# Altium footprint library basic_pcb.PcbLib: 133 footprints (part 7 of 9)
Each footprint in its own frame and in the unit in brackets; x right, y up, seen from the top. Pads: shape width x height; smd on the part's side, far side on the other; paste and mask are expansions set on the pad; w line width, h text height; cw(c..) or ccw(c..) is an arc to the next point about the centre after c.
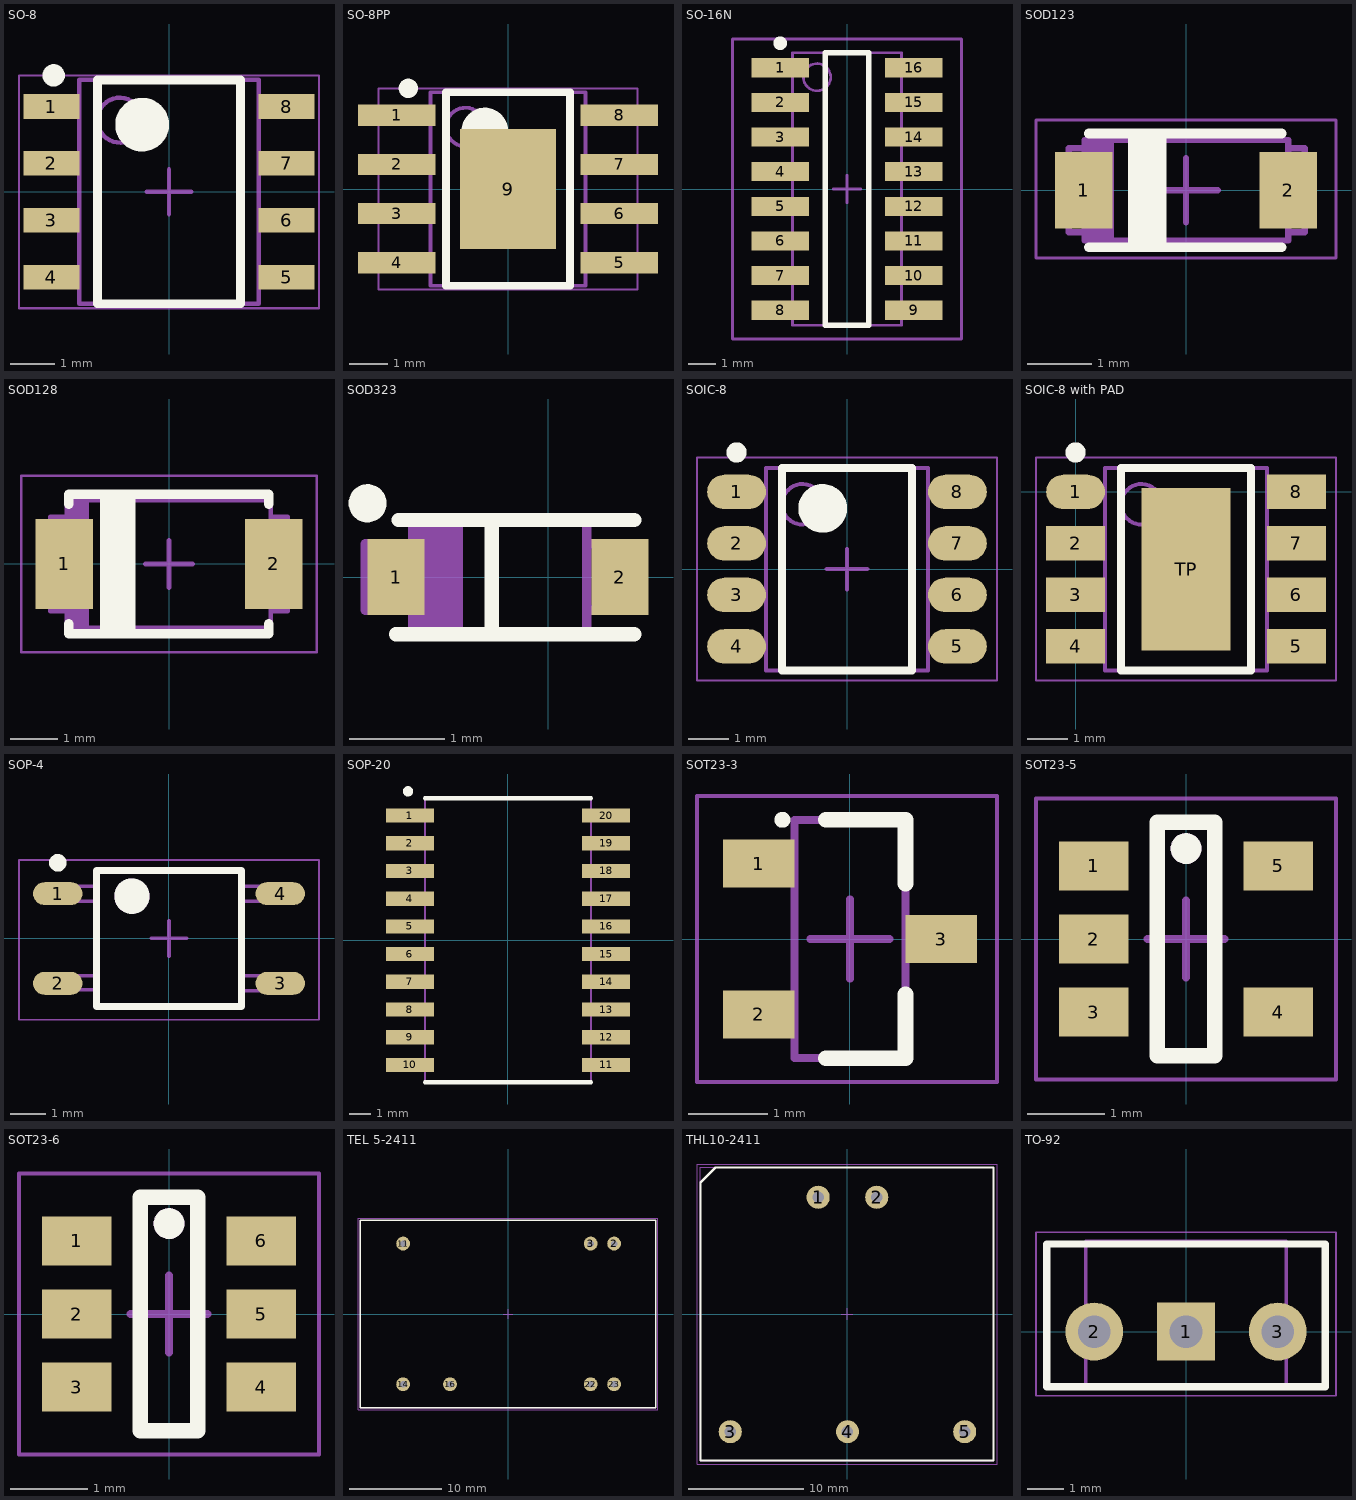
[diagram p6: the footprints below, top view; thin cyan lines are the x and y axes]

## SO-8 [mm] "SOIC, 8-Leads, Body 4,90x3,90mm, Pitch 1,27mm, IPC High Density"
height 1.75
pads (8):
  rect 1.25x0.55 smd: 1(-2.625,1.905) 2(-2.625,0.635) 3(-2.625,-0.635) 4(-2.625,-1.905) 5(2.625,-1.905) 6(2.625,-0.635) 7(2.625,0.635) 8(2.625,1.905)
Top Overlay:
  circle w0.6: c-0.6,1.5 r0.3
  circle w0.25: c-2.575,2.6 r0.125
  lines w0.2: -1.6,-2.5 1.6,-2.5 1.6,2.5 -1.6,2.5 -1.6,-2.5
Top Value:
  text ".Comment" at 0.952,-2.189 h1.52
Top Designator:
  text ".Designator" at -0.272,-2.617 h1.52
Top Component Outline:
  circle w0.1: c-1.1,1.6 r0.5
  lines w0.1: -2,-2.5 2,-2.5 2,2.5 -2,2.5 -2,-2.5
Top Courtyard:
  lines w0.05: -3.35,-2.6 3.35,-2.6 3.35,2.6 -3.35,2.6 -3.35,-2.6
  lines w0.1: -0.5,0 0.5,0 ; 0,-0.5 0,0.5
3D body "User Library-SOIC-8-150.STEP": height 1.75, standoff 0, extent -3.1,-2.5 3.1,2.5

## SO-8PP [mm] "SOIC, 8-Leads, Body 4,90x3,90mm, Pitch 1,27mm, IPC High Density"
height 1.75
pads (9):
  rect 2x0.55 smd: 1(-2.875,1.905) 2(-2.875,0.635) 3(-2.875,-0.635) 4(-2.875,-1.905) 5(2.875,-1.905) 6(2.875,-0.635) 7(2.875,0.635) 8(2.875,1.905)
  rect 2.49x3.1 smd: 9(0,0)
Top Overlay:
  circle w0.25: c-2.575,2.6 r0.125
  circle w0.6: c-0.6,1.5 r0.3
  lines w0.2: -1.6,-2.5 -1.6,2.5 1.6,2.5 1.6,-2.5 -1.6,-2.5
Top Value:
  text ".Comment" at -2.189,-4.952 h1.52
Top Designator:
  text ".Designator" at -2.617,-3.728 h1.52
Top Component Outline:
  circle w0.1: c-1.1,1.6 r0.5
  lines w0.1: -2,-2.5 -2,2.5 2,2.5 2,-2.5 -2,-2.5
Top Courtyard:
  lines w0.05: -3.35,-2.6 -3.35,2.6 3.35,2.6 3.35,-2.6 -3.35,-2.6
  lines w0.1: -0.5,0 0.5,0 ; 0,-0.5 0,0.5
3D body "User Library-SOIC-8-150.STEP": height 1.75, standoff 0, extent -3.1,-2.5 3.1,2.5

## SO-16N [mm] "16-Pin Small Outline Integrated Circuit 1.27 mm Pitch, IPC Low Density"
height 1.75
pads (16):
  rect 2.1x0.7 smd: 1(-2.45,4.445) 2(-2.45,3.175) 3(-2.45,1.905) 4(-2.45,0.635) 5(-2.45,-0.635) 6(-2.45,-1.905) 7(-2.45,-3.175) 8(-2.45,-4.445) 9(2.45,-4.445) 10(2.45,-3.175) 11(2.45,-1.905) 12(2.45,-0.635) 13(2.45,0.635) 14(2.45,1.905) 15(2.45,3.175) 16(2.45,4.445)
Top Overlay:
  circle w0.25: c-2.45,5.345 r0.125
  lines w0.2: -0.8,-5 -0.8,5 0.8,5 0.8,-5 -0.8,-5
Top Value:
  text ".Comment" at 0.952,-2.189 h1.52
Top Designator:
  text ".Designator" at -0.272,-2.617 h1.52
Top Component Outline:
  circle w0.1: c-1.1,4.1 r0.5
  lines w0.1: -0.5,0 0.5,0 ; 0,-0.5 0,0.5 ; -4.2,-5.5 -4.2,5.5 4.2,5.5 4.2,-5.5 -4.2,-5.5 ; -2,-5 -2,5 2,5 2,-5 -2,-5
3D body "so16-1 (SOT109-1).STEP": height 1.78, standoff 0.01, extent -3.018,-4.985 3.118,4.985

## SOD123 [mm]
height 1.35
pads (2):
  rect 0.9x1.2 smd: 1(-1.6,0) 2(1.6,0)
Top Overlay:
  rectangle: -0.825,-0.9 -0.35,0.875
  lines w0.15: -1.524,-0.897 -0.83,-0.897 ; -1.524,0.889 1.499,0.889 ; -0.83,0.889 -0.83,-0.897 ; -0.38,-0.897 -0.38,0.889 ; 1.499,-0.897 -0.83,-0.897
Top Value:
  text ".Comment" at -2.308,-3.352 h1.52
Top Designator:
  text ".Designator" at -2.318,-2.129 h1.52
Top Component Outline:
  rectangle: -1.584,-0.787 -1.127,0.787
  lines w0.1: -1.584,-0.66 -1.838,-0.66 -1.838,0.66 -1.584,0.66 ; 1.604,0.66 1.858,0.66 1.858,-0.66 1.604,-0.66 1.604,-0.787 ; 1.604,-0.787 -1.584,-0.787 -1.584,0.787 1.604,0.787 1.604,-0.787
Top Courtyard:
  lines w0.05: -2.35,-1.062 2.35,-1.062 2.35,1.1 -2.35,1.1 -2.35,-1.062
  lines w0.1: -0.5,0 0.5,0 ; 0,-0.5 0,0.5
3D body "SW3DPS-SOD123-DEFAULT.STEP": height 1.27, standoff 0, extent -1.85,-0.8 1.85,0.8

## SOD128 [mm]
height 2.67
pads (2):
  rect 1.2x1.9 smd: 1(-2.2,0) 2(2.2,0)
Top Overlay:
  rectangle: -1.35,-1.45 -0.8,1.44
  lines w0.2: -2.108,-1.26 -2.108,-1.46 -1.473,-1.46 2.09,-1.46 2.09,-1.26 ; -2.108,1.26 -2.108,1.46 2.09,1.46 2.09,1.26 ; -1.35,-1.46 -1.35,1.44 ; -0.8,-1.45 -0.8,1.45
Top Value:
  text ".Comment" at -3.108,-4.152 h1.52
Top Designator:
  text ".Designator" at -3.118,-2.929 h1.52
Top Component Outline:
  rectangle: -2.14,-1.346 -1.682,1.346
  lines w0.1: -2.14,-0.991 -2.495,-0.991 -2.495,0.991 -2.14,0.991 ; 2.139,-0.991 2.495,-0.991 2.495,0.991 2.139,0.991 ; -2.14,-1.346 -2.14,1.346 2.139,1.346 2.139,-1.346 -2.14,-1.346 ; -2.14,-1.346 -2.14,-1.346
Top Courtyard:
  lines w0.05: -3.1,-1.85 3.1,-1.85 3.1,1.85 -3.1,1.85 -3.1,-1.85
  lines w0.1: -0.5,0 0.5,0 ; 0,-0.5 0,0.5
3D body "User Library-SOD128.step": height 1.1, standoff -0.01, extent -2.5,-1.35 2.5,1.35

## SOD323 [mm]
height 1.35
pads (2):
  rect 0.6x0.8 smd: 1(-1.6,0) 2(0.75,0)
Top Overlay:
  circle w0.2: c-1.9,0.775 r0.1
  lines w0.15: -1.6,-0.6 0.9,-0.6 ; -1.575,0.6 0.9,0.6 ; -0.595,-0.6 -0.595,0.6
Top Value:
  text ".Comment" at -1.211,-0.449 h0.6
Top Designator:
  text ".Designator" at -1.726,0.068 h0.8
Top Component Outline:
  lines w0.1: -1.425,-0.35 -1.925,-0.35 -1.925,0.35 -1.425,0.35 ; -1.35,-0.6 -1.35,0.6 ; -1.25,-0.6 -1.25,0.6 ; -1.15,-0.6 -1.15,0.6 ; -1.05,-0.6 -1.05,0.6 ; -0.95,-0.6 -0.95,0.6 ; 0.4,-0.35 0.9,-0.35 0.9,0.35 0.4,0.35 ; -1.425,-0.6 0.4,-0.6 0.4,0.6 -1.425,0.6 -1.425,-0.6
3D body "User Library-SOD323F-1.STEP": height 1, standoff 0, extent -1.675,-0.675 0.825,0.675

## SOIC-8 [mm] "LMV358"
height 1.75
pads (8):
  oval 1.45x0.85 smd: 1(-2.725,1.905) 2(-2.725,0.635) 3(-2.725,-0.635) 4(-2.725,-1.905) 5(2.725,-1.905) 6(2.725,-0.635) 7(2.725,0.635) 8(2.725,1.905)
Top Overlay:
  circle w0.6: c-0.6,1.5 r0.3
  circle w0.25: c-2.725,2.88 r0.125
  lines w0.2: -1.6,-2.5 1.6,-2.5 1.6,2.5 -1.6,2.5 -1.6,-2.5
Top Value:
  text ".Comment" at -2.189,-0.952 h1.52
Top Designator:
  text ".Designator" at -2.617,0.272 h1.52
Top 3D Body:
  circle w0.1: c-1.1,1.6 r0.5
  lines w0.1: -2,-2.5 2,-2.5 2,2.5 -2,2.5 -2,-2.5
Top Courtyard:
  lines w0.05: -3.7,-2.75 3.7,-2.75 3.7,2.75 -3.7,2.75 -3.7,-2.75
  lines w0.1: -0.5,0 0.5,0 ; 0,-0.5 0,0.5
3D body "User Library-SOIC-8-1.step": height 1.75, standoff 0, extent -3,-2.45 3,2.45

## SOIC-8 with PAD [mm]
pads (9):
  oval 1.45x0.85 smd: 1(0,0)
  rect 1.45x0.85 smd: 2(0,-1.27) 3(0,-2.54) 4(0,-3.81) 5(5.45,-3.81) 6(5.45,-2.54) 7(5.45,-1.27) 8(5.45,0)
  rect 2.2x4 smd: TP(2.725,-1.905)
Top Overlay:
  circle w0.25: c0,0.975 r0.125
  lines w0.2: 1.125,-4.405 1.125,0.595 4.325,0.595 4.325,-4.405 1.125,-4.405
Top Value:
  text ".Comment" at 0.511,-2.852 h1.52
Top Designator:
  text ".Designator" at 0.083,-1.628 h1.52
Top 3D Body:
  circle w0.1: c1.625,-0.305 r0.5
  lines w0.1: 0.725,-4.405 0.725,0.595 4.725,0.595 4.725,-4.405 0.725,-4.405
Top Courtyard:
  lines w0.05: -0.975,-4.655 -0.975,0.845 6.425,0.845 6.425,-4.655 -0.975,-4.655
  lines w0.1: 2.225,-1.905 3.225,-1.905 ; 2.725,-2.405 2.725,-1.405
3D body "User Library-SOIC-8-1.step": height 1.75, standoff 0, extent -0.275,-4.355 5.725,0.545

## SOP-4 [mm] "SOP, 4-Leads, Body 3,90x4,40mm, Pitch 2,54mm, IPC High Density"
height 2.5
pads (4):
  oval 1.4x0.65 smd: 1(-3.15,1.27) 2(-3.15,-1.27) 3(3.15,-1.27) 4(3.15,1.27)
Top Overlay:
  circle w0.6: c-1.05,1.2 r0.202
  circle w0.25: c-3.15,2.145 r0.125
  lines w0.2: -2.05,-1.925 2.05,-1.925 2.05,1.925 -2.05,1.925 -2.05,-1.925
Top Value:
  text ".Comment" at -2.189,-0.952 h1.52
Top Designator:
  text ".Designator" at -2.617,0.272 h1.52
Top Component Outline:
  circle w0.1: c-1.05,1.2 r0.451
  lines w0.05: -2.75,-1.475 -2.75,-1.05 ; -2.75,1.05 -2.75,1.475 ; 2.75,-1.475 2.75,-1.05 ; 2.75,1.05 2.75,1.475
  lines w0.1: -2.1,-1.45 -3.5,-1.45 -3.5,-1.05 -2.1,-1.05 ; -2.1,1.05 -3.5,1.05 -3.5,1.475 -2.1,1.475 ; 2.1,-1.475 3.5,-1.475 3.5,-1.05 2.1,-1.05 ; 2.1,1.05 3.5,1.05 3.5,1.475 2.1,1.475 ; -2.1,-1.925 2.1,-1.925 2.1,1.925 -2.1,1.925 -2.1,-1.925
Top Courtyard:
  lines w0.05: -4.25,-2.3 4.25,-2.3 4.25,2.225 -4.25,2.225 -4.25,-2.3
  lines w0.1: -0.5,0 0.5,0 ; 0,-0.5 0,0.5
3D body "User Library-VOM618A.step": height 2.1, standoff 0, extent -3.503,-1.925 3.504,1.925

## SOP-20 [mm]
pads (20):
  rect 2.2x0.65 smd: 1(-4.5,5.715) 2(-4.5,4.445) 3(-4.5,3.175) 4(-4.5,1.905) 5(-4.5,0.635) 6(-4.5,-0.635) 7(-4.5,-1.905) 8(-4.5,-3.175) 9(-4.5,-4.445) 10(-4.5,-5.715) 11(4.5,-5.715) 12(4.5,-4.445) 13(4.5,-3.175) 14(4.5,-1.905) 15(4.5,-0.635) 16(4.5,0.635) 17(4.5,1.905) 18(4.5,3.175) 19(4.5,4.445) 20(4.5,5.715)
Top Overlay:
  circle w0.254: c-4.581,6.825 r0.106
  lines w0.2: -3.8,-6.5 3.8,-6.5 ; -3.8,6.5 3.8,6.5
Top Value:
  text ".Comment" at 0.952,-2.189 h1.52
Top Designator:
  text ".Designator" at -0.272,-2.617 h1.52
Top Component Outline:
  lines w0.1: -3.8,-6.5 -3.8,6.5 3.8,6.5 3.8,-6.5 -3.775,-6.5
3D body: height 2.65, standoff 0, extent -3.8,-6.5 3.8,6.5

## SOT23-3 [mm] "SOT23, 3-Leads, Body 2,90x2,30mm, Pitch 0,95mm, IPC Medium Density"
height 1.1
pads (3):
  rect 0.9x0.6 smd: 1(-1.15,0.95) 2(-1.15,-0.95) 3(1.15,0)
Top Overlay:
  circle w0.1: c-0.85,1.5 r0.05
  lines w0.2: -0.3,-1.5 0.7,-1.5 0.7,-0.7 ; -0.3,1.5 0.7,1.5 0.7,0.7
Top Value:
  text ".Comment" at -1.908,-4.052 h1.52
Top Designator:
  text ".Designator" at -1.918,-2.829 h1.52
Top Component Outline:
  lines w0.1: -0.7,-1.5 0.7,-1.5 0.7,1.5 -0.7,1.5 -0.7,-1.5
Top Courtyard:
  lines w0.05: -1.925,-1.8 -1.925,1.8 1.85,1.8 1.85,-1.8 -1.925,-1.8
  lines w0.1: -0.5,0 0.5,0 ; 0,-0.5 0,0.5
3D body "CircuitWorks-SOT-23.step": height 1.05, standoff -0.05, extent -1.35,-1.5 1.15,1.5

## SOT23-5 [mm]
height 1.12
pads (5):
  rect 0.9x0.64 smd: 1(-1.2,0.95) 2(-1.2,0) 3(-1.2,-0.95) 4(1.2,-0.95) 5(1.2,0.95)
Top Overlay:
  circle w0.2: c0,1.175 r0.1
  lines w0.2: -0.375,-1.52 -0.375,1.52 0.375,1.52 0.375,-1.52 -0.375,-1.52
Top Value:
  text ".Comment" at -1.908,-4.052 h1.52
Top Designator:
  text ".Designator" at -1.918,-2.829 h1.52
Top Component Outline:
  circle w0.2: c0,1.175 r0.1
  lines w0.1: -0.375,-1.52 -0.375,1.52 0.375,1.52 0.375,-1.52 -0.375,-1.52
Top Courtyard:
  lines w0.05: -1.95,-1.825 -1.95,1.825 1.95,1.825 1.95,-1.825 -1.95,-1.825
  lines w0.1: -0.5,0 0.5,0 ; 0,-0.5 0,0.5
3D body "User Library-SOT23-5-2.step": height 1.45, standoff 0, extent -1.4,-1.45 1.4,1.45

## SOT23-6 [mm]
height 1.12
pads (6):
  rect 0.9x0.64 smd: 1(-1.2,0.95) 2(-1.2,0) 3(-1.2,-0.95) 4(1.2,-0.95) 5(1.2,0) 6(1.2,0.95)
Top Overlay:
  circle w0.2: c0,1.175 r0.1
  lines w0.2: -0.375,-1.52 -0.375,1.52 0.375,1.52 0.375,-1.52 -0.375,-1.52
Top Value:
  text ".Comment" at -1.908,-4.052 h1.52
Top Designator:
  text ".Designator" at -1.918,-2.829 h1.52
Top Component Outline:
  circle w0.2: c0,1.175 r0.1
  lines w0.1: -0.375,-1.52 -0.375,1.52 0.375,1.52 0.375,-1.52 -0.375,-1.52
Top Courtyard:
  lines w0.05: -1.95,-1.825 -1.95,1.825 1.95,1.825 1.95,-1.825 -1.95,-1.825
  lines w0.1: -0.5,0 0.5,0 ; 0,-0.5 0,0.5
3D body "User Library-SOT-23-6.step": height 1.09, standoff 0, extent -1.2,-1.397 1.226,1.397

## TEL 5-2411 [mm]
pads (7):
  round 1.5 hole 0.7: 2(11.5,7.63) 3(8.96,7.63) 11(-11.36,7.63) 14(-11.36,-7.61) 16(-6.28,-7.61) 22(8.96,-7.61) 23(11.5,-7.61)
Top Overlay:
  lines w0.2: -16,-10.15 16,-10.15 16,10.15 -16,10.15 -16,-10.15
Top Value:
  text ".Comment" at -2.189,-0.952 h1.52
Top Designator:
  text ".Designator" at -2.617,0.272 h1.52
Top Component Outline:
  lines w0.1: -16,-10.15 16,-10.15 16,10.15 -16,10.15 -16,-10.15
Top Courtyard:
  lines w0.05: -16.25,-10.4 -16.25,10.4 -13.75,10.4 16.25,10.4 16.25,-10.4 -16.25,-10.4
  lines w0.1: -0.5,0 0.5,0 ; 0,-0.5 0,0.5
3D body "TP TEL 5-2411.STEP": height 10.2, standoff -5, extent -16,-10.15 16,10.15

## THL10-2411 [mm]
height 10.3
pads (5):
  round 2 hole 1: 1(-2.5,10.12) 2(2.58,10.12) 3(-10.12,-10.2) 4(0.04,-10.2) 5(10.2,-10.2)
Top Overlay:
  lines w0.2: -12.7,-12.7 12.7,-12.7 12.7,12.7 -11.4,12.7 -12.7,11.4 -12.7,-12.7
Top Value:
  text ".Comment" at -2.189,-0.952 h1.52
Top Designator:
  text ".Designator" at -2.617,0.272 h1.52
Top Component Outline:
  lines w0.1: -12.7,-12.7 -12.7,12.7 12.7,12.7 12.7,-12.7 -12.7,-12.7
Top Courtyard:
  lines w0.05: -13,-13 -13,13 13,13 13,-13 -13,-13
  lines w0.1: -0.5,0 0.5,0 ; 0,-0.5 0,0.5
3D body: height 10.3, standoff 0, extent -12.7,-12.7 12.7,12.7
3D body: height 10.4, standoff 10.3, extent -12.7,-12.7 12.7,12.7

## TO-92 [mm]
height 0.05
pads (3):
  rect 1.6x1.6 hole 0.9: 1(0,0)
  round 1.6 hole 0.9: 2(-2.54,0) 3(2.54,0)
Top Overlay:
  lines w0.2: -3.85,-1.525 3.85,-1.525 3.85,2.425 -3.85,2.425 -3.85,-1.525
Top Value:
  text ".Comment" at -4.108,-4.202 h1.52
Top Designator:
  text ".Designator" at -4.183,-3.002 h1.52
Top Component Outline:
  lines w0.1: -2.775,-1.525 -2.775,2.5 2.775,2.5 2.775,-1.525 -2.775,-1.525
Top Courtyard:
  lines w0.05: -4.15,-1.775 -4.15,2.75 4.15,2.75 4.15,-1.775 -4.15,-1.775
  lines w0.1: -0.5,0 0.5,0 ; 0,-0.5 0,0.5
3D body "ALSRobot-TO-92W.STEP": height 9.7, standoff -1.6, extent -2.765,-1.55 2.765,2.538